# Altium schematic symbol library Passives.SCHLIB: 9 symbols
Pins are listed as number, name and electrical type; pins without a type are passive.

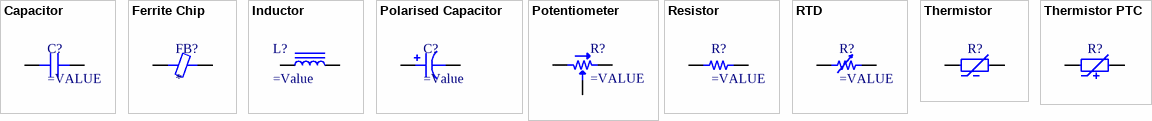
[diagram p0: symbols Capacitor to Thermistor PTC]

## Capacitor
designator C?
SMT Capacitor
pins: 1, 2

## Ferrite Chip
designator FB?
SMT Ferrite Chip
pins: 1, 2

## Inductor
designator L?
SMT Inductor
pins: 1, 2

## Polarised Capacitor
designator C?
SMT Polarised Capacitor
pins: 1, 2

## Potentiometer
designator R?
Potentiometer
pins: 1, 2, 3

## Resistor
designator R?
SMT Resistor
footprint RES 0201_0603 (Chip Resistor, 2-Leads, Body 0.60x0.30mm, IPC Medium Density)
footprint RES 0402_1005 (Chip Resistor, 2-Leads, Body 1.0x0.5mm, IPC Medium Density)
footprint RES 0402_1005 RF (Chip Resistor, 2-Leads, Body 1.0x0.5mm, IPC High Density)
footprint RES 0603_1608 (Chip Resistor, 2-Leads, Body 1.60x0.80mm, IPC Medium Density)
footprint RES 0603_1608 RF (Chip Resistor, 2-Leads, Body 1.60x0.80mm, IPC High Density)
footprint RES 0805_2012 (Chip Resistor, 2-Leads, Body 2.00x1.25mm, IPC Medium Density)
footprint RES 0805_2012 RF (Chip Resistor, 2-Leads, Body 2.00x1.25mm, IPC High Density)
footprint RES 1206_3216 (Chip Resistor, 2-Leads, Body 3.13x1.55mm, IPC Medium Density)
footprint RES 1206_3216 RF (Chip Resistor, 2-Leads, Body 3.13x1.55mm, IPC High Density)
footprint RES 1210_3225 (Chip Resistor, 2-Leads, Body 3.1x2.6mm, IPC Medium Density)
footprint RES 2512_6432 (Chip Resistor, 2-Leads, Body 6.30x3.15mm, IPC Medium Density)
pins: 1, 2

## RTD
designator R?
SMT Resistor
footprint RTD 0603_1608 (1 kOhms RTD Platinum ±0.3% ±3850ppm/°C -50°C ~ 150°C, 2-Leads, Body 1.70x0.90mm, IPC Medium Density)
footprint RTD 0805_2012 (1 kOhms RTD Platinum ±0.3% ±3850ppm/°C -50°C ~ 130°C, 2-Leads, Body 2.30x1.40mm, IPC Medium Density)
footprint RTD 1206_3216 (100 Ohms RTD Platinum ±0.3% ±3850ppm/°C -50°C ~ 130°C, 2-Leads, Body 3.20x1.60mm, IPC Medium Density)
pins: 1, 2

## Thermistor
designator R?
SMT Resistor
footprint NTC 0201_0603 (Chip Thermisistor, 2-Leads, Body 0.60x0.30mm, IPC Medium Density)
footprint NTC 0402_1005 (Chip Thermistor, 2-Leads, Body 1.00x0.50mm, IPC Medium Density)
footprint NTC 0603_1608 (NTC Thermistor, 2-Leads, Body 1.60x0.80mm, IPC Medium Density)
footprint NTC 0805_2012 (Chip Thermistor, 2-Leads, Body 2.00x1.25mm, IPC Medium Density)
pins: 1, 2

## Thermistor PTC
designator R?
SMT Resistor
pins: 1, 2